# Altium schematic symbol library MosFet-P-P-Ch.SchLib: 1 symbol
Pins are listed as number, name and electrical type; pins without a type are passive.

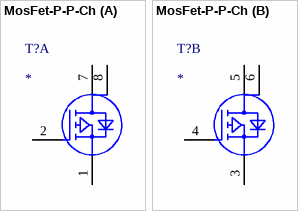
[diagram p0: symbol MosFet-P-P-Ch]

## MosFet-P-P-Ch
designator T?
part A pins: 1 SOURCE, 2 GATE, 7 DRAIN, 8 DRAIN
part B pins: 3 SOURCE, 4 GATE, 5 DRAIN, 6 DRAIN